# Altium schematic symbol library RaspberryPi_Hat_schlib.SchLib: 7 symbols
Pins are listed as number, name and electrical type; pins without a type are passive.

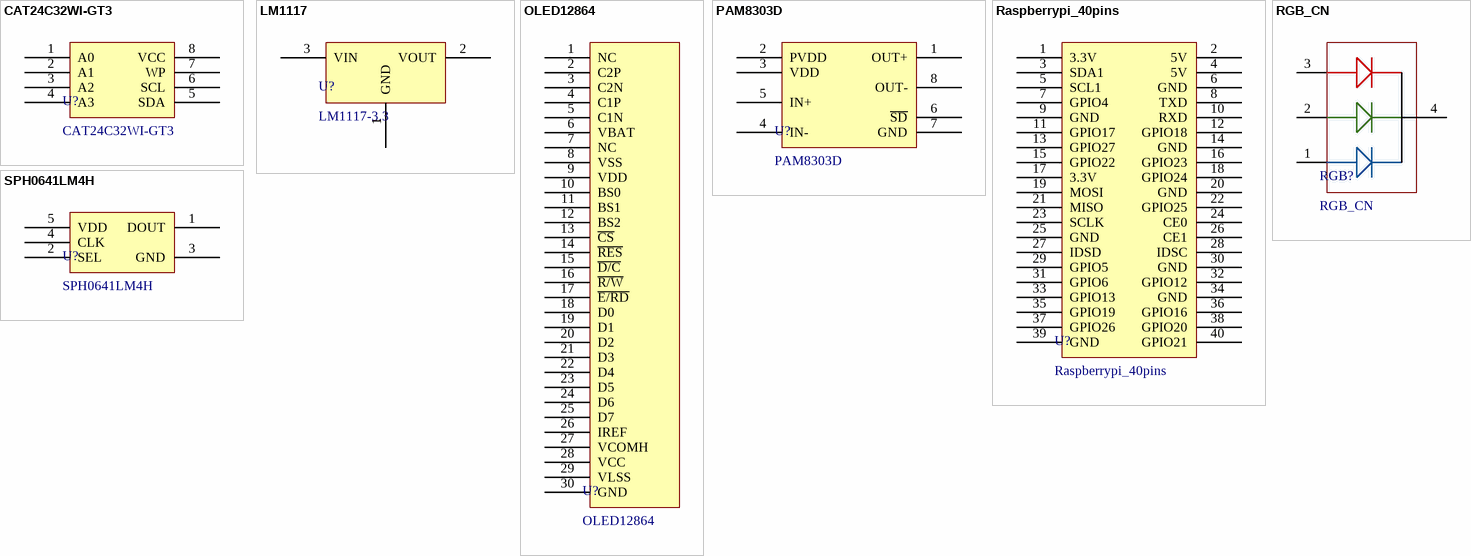
[diagram p0: symbols CAT24C32WI-GT3 to SPH0641LM4H]

## CAT24C32WI-GT3
designator U?
Raspiberry Config EEProm
pins: 1 A0, 2 A1, 3 A2, 4 A3, 5 SDA, 6 SCL, 7 WP, 8 VCC

## LM1117
designator U?, comment LM1117-3.3
低压差线性稳压芯片，输出5V; Value: LM1117-3.3
pins: 1 GND, 2 VOUT, 3 VIN

## OLED12864
designator U?
OLED 12864 1.3inch
pins: 1 NC, 2 C2P, 3 C2N, 4 C1P, 5 C1N, 6 VBAT, 7 NC, 8 VSS, 9 VDD, 10 BS0, 11 BS1, 12 BS2, 13 ~{CS}, 14 ~{RES}, 15 ~{D/C}, 16 ~{R/W}, 17 ~{E/RD}, 18 D0, 19 D1, 20 D2, 21 D3, 22 D4, 23 D5, 24 D6, 25 D7, 26 IREF, 27 VCOMH, 28 VCC, 29 VLSS, 30 GND

## PAM8303D
designator U?
pins: 1 OUT+, 2 PVDD, 3 VDD, 4 IN-, 5 IN+, 6 ~{SD}, 7 GND, 8 OUT-

## Raspberrypi_40pins
designator U?
树莓派40pin管脚
pins: 1 3.3V, 2 5V, 3 SDA1, 4 5V, 5 SCL1, 6 GND, 7 GPIO4, 8 TXD, 9 GND, 10 RXD, 11 GPIO17, 12 GPIO18, 13 GPIO27, 14 GND, 15 GPIO22, 16 GPIO23, 17 3.3V, 18 GPIO24, 19 MOSI, 20 GND, 21 MISO, 22 GPIO25, 23 SCLK, 24 CE0, 25 GND, 26 CE1, 27 IDSD, 28 IDSC, 29 GPIO5, 30 GND, 31 GPIO6, 32 GPIO12, 33 GPIO13, 34 GND, 35 GPIO19, 36 GPIO16, 37 GPIO26, 38 GPIO20, 39 GND, 40 GPIO21

## RGB_CN
designator RGB?
pins: 1 B, 2 G, 3 G, 4 COM

## SPH0641LM4H
designator U?
数字麦克风
pins: 1 DOUT, 2 SEL, 3 GND, 4 CLK, 5 VDD